# EAGLE library part M17 (library berkeley-epic)
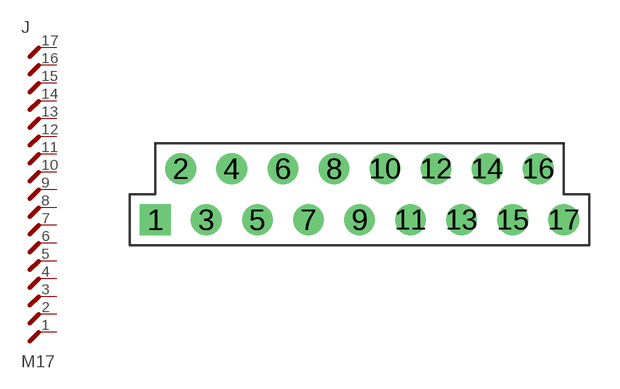
[diagram p14: symbol with the pads of 1X17-ZIGZAG; footprint 1X17-ZIGZAG]

Designator prefix J

## M17ZIGZAG  [1X17-ZIGZAG]
1  1  pas
2  2  pas
3  3  pas
4  4  pas
5  5  pas
6  6  pas
7  7  pas
8  8  pas
9  9  pas
10  10  pas
11  11  pas
12  12  pas
13  13  pas
14  14  pas
15  15  pas
16  16  pas
17  17  pas

## Footprint 1X17-ZIGZAG (pad centres in mm)
drill 1.016 square: 1 0,0
drill 1.016: 2 1.27,2.54; 3 2.54,0; 4 3.81,2.54; 5 5.08,0; 6 6.35,2.54; 7 7.62,0; 8 8.89,2.54; 9 10.16,0; 10 11.43,2.54; 11 12.7,0; 12 13.97,2.54; 13 15.24,0; 14 16.51,2.54; 15 17.78,0; 16 19.05,2.54; 17 20.32,0